# EAGLE library part AD9763 (library Mine)
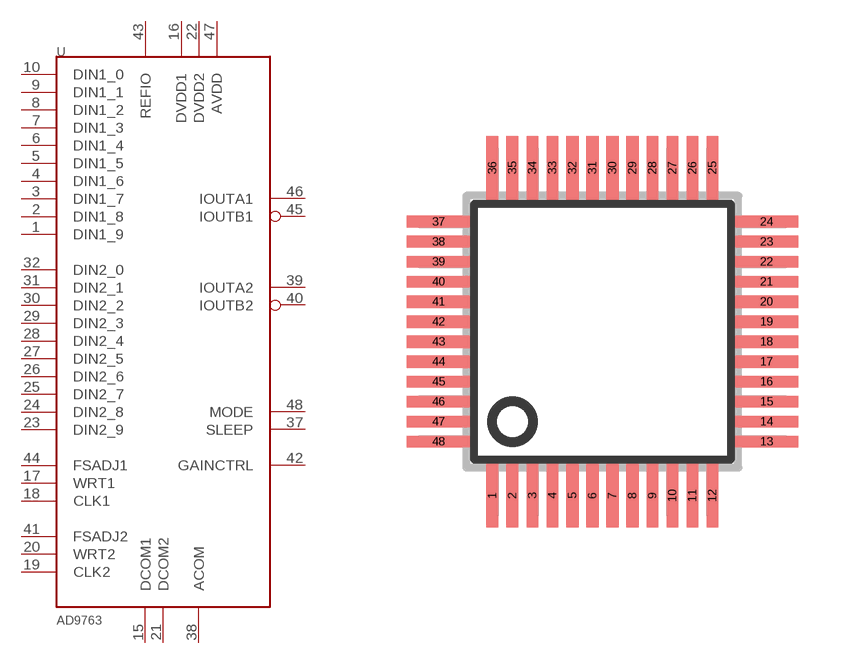
[diagram p45: symbol with the pads of SQFP-S-7X7-48; footprint SQFP-S-7X7-48]

Designator prefix -

## AD9763  [SQFP-S-7X7-48]
1  DIN1_9  in
2  DIN1_8  in
3  DIN1_7  in
4  DIN1_6  in
5  DIN1_5  in
6  DIN1_4  in
7  DIN1_3  in
8  DIN1_2  in
9  DIN1_1  in
10  DIN1_0  in
15  DCOM1  pwr
16  DVDD1  pwr
17  WRT1  in
18  CLK1  in
19  CLK2  in
20  WRT2  in
21  DCOM2  pwr
22  DVDD2  pwr
23  DIN2_9  in
24  DIN2_8  in
25  DIN2_7  in
26  DIN2_6  in
27  DIN2_5  in
28  DIN2_4  in
29  DIN2_3  in
30  DIN2_2  in
31  DIN2_1  in
32  DIN2_0  in
37  SLEEP  in
38  ACOM  pwr
39  IOUTA2  out
40  IOUTB2  out
41  FSADJ2  in
42  GAINCTRL  in
43  REFIO  pwr
44  FSADJ1  in
45  IOUTB1  out
46  IOUTA1  out
47  AVDD  pwr
48  MODE  in

## Footprint SQFP-S-7X7-48 (pad centres in mm)
QFP48 shrink quad flat pack, square
smd 0.3 x 1.6: 1 -2.75,-4.1; 2 -2.25,-4.1; 3 -1.75,-4.1; 4 -1.25,-4.1; 5 -0.75,-4.1; 6 -0.25,-4.1; 7 0.25,-4.1; 8 0.75,-4.1; 9 1.25,-4.1; 10 1.75,-4.1; 11 2.25,-4.1; 12 2.75,-4.1; 25 2.75,4.1; 26 2.25,4.1; 27 1.75,4.1; 28 1.25,4.1; 29 0.75,4.1; 30 0.25,4.1; 31 -0.25,4.1; 32 -0.75,4.1; 33 -1.25,4.1; 34 -1.75,4.1; 35 -2.25,4.1; 36 -2.75,4.1
smd 1.6 x 0.3: 13 4.1,-2.75; 14 4.1,-2.25; 15 4.1,-1.75; 16 4.1,-1.25; 17 4.1,-0.75; 18 4.1,-0.25; 19 4.1,0.25; 20 4.1,0.75; 21 4.1,1.25; 22 4.1,1.75; 23 4.1,2.25; 24 4.1,2.75; 37 -4.1,2.75; 38 -4.1,2.25; 39 -4.1,1.75; 40 -4.1,1.25; 41 -4.1,0.75; 42 -4.1,0.25; 43 -4.1,-0.25; 44 -4.1,-0.75; 45 -4.1,-1.25; 46 -4.1,-1.75; 47 -4.1,-2.25; 48 -4.1,-2.75